# EAGLE library part 615006141121 (library WR-MJ)
WR-MJ Cat 3 Modular Jacks – THT Characteristics Shieldingless and Shielded with EMI-Spring option Optional LEDs in various sequences Vertical and Horizontal orientation Stacked and assembled configurations Tray Packaging Properties PoE++ Compatible up to 100W (IEEE 802.3bt) UL and cULus-Certified UL94-V0 insulator material Ethernet Category 3 – Category 5 under conditions Applications Networks Internet of Things mart Buildings <https://www.we-online.com/components/media/o863419v209%20multi-WR-MJTH-615002138421.jpg> Details see: www.we-online.com/en/components/products/WR_MJ_MODULAR_JACKS_THT <www.we-online.com/catalog/WR_MJ_MODULAR_JACKS_THT/?utm_source=eagle_model&utm_medium=description_link&utm_campaign=eisos_eagle> Updated by Yingchun Shan 2020-01-06 2020(C) Würth Elektronik
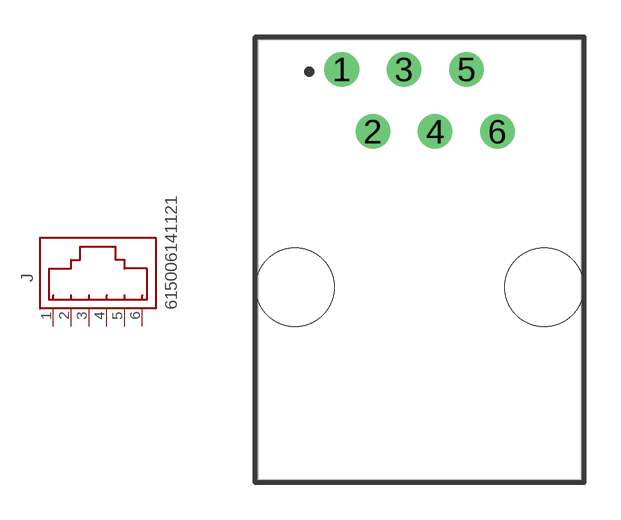
[diagram p34: symbol with the pads of 615006141121; footprint 615006141121]

Designator prefix J

## 615006141121 (DATASHEET-URL: https://www.we-online.com/redexpert/spec/615006141121?ae; EMI: No; LED: /; MOUNT: THT; PART-NUMBER: 615006141121; SIZE: Horizontal; TAB: Down; VALUE: 615006141121; XPXC: 6P6C)  [615006141121]
1  6  pas
2  5  pas
3  4  pas
4  3  pas
5  2  pas
6  1  pas

## Footprint 615006141121 (pad centres in mm)
WR-MJ Horizontal Plastic 6P6C Modular Jack Tab Down, 6 Pins
drill 0.9: 1 -3.175,7.77; 2 -1.905,5.23; 3 -0.635,7.77; 4 0.635,5.23; 5 1.905,7.77; 6 3.175,5.23
hole 3.2 at -5.08,-1.12
hole 3.2 at 5.08,-1.12